# EAGLE library part MAX16998AAUA+T (library Artemis)
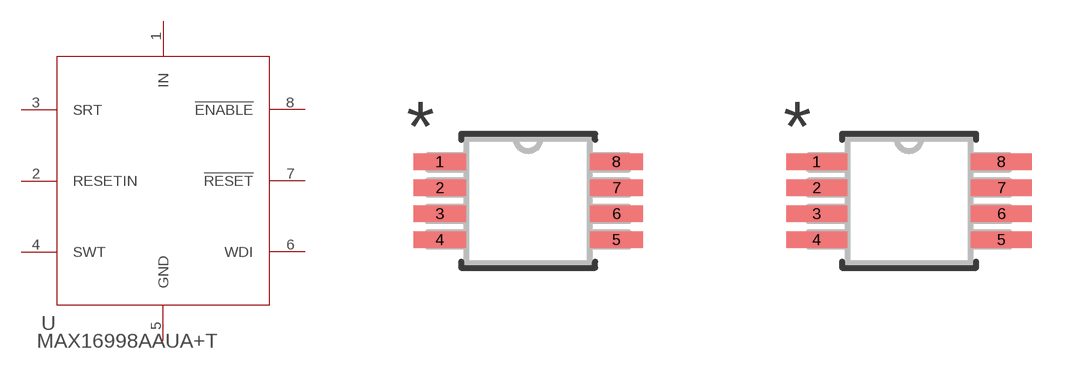
[diagram p10: symbol with the pads of 21-0036K_MXM; footprints 21-0036K_MXM, 21-0036K_MXM-M]

Designator prefix U

## MAX16998AAUA+T (BUILT_BY: EMA_UL_Team; MANUFACTURER_PART_NUMBER: MAX16998AAUA+T; REVISION: 2; SOURCELIBRARY: Maxim_2014-04-30_1; VENDOR: Maxim Integrated Products)  [21-0036K_MXM]
1  IN  in
2  RESETIN
3  SRT
4  SWT
5  GND  pwr
6  WDI
7  !RESET  pas
8  !ENABLE

## MAX16998AAUA+T21-0036K_MXM-M (BUILT_BY: EMA_UL_Team; MANUFACTURER_PART_NUMBER: MAX16998AAUA+T; REVISION: 2; SOURCELIBRARY: Maxim_2014-04-30_1; VENDOR: Maxim Integrated Products)  [21-0036K_MXM-M]
Pads as for 21-0036K_MXM

## MAX16998AAUA+T21-0036K_MXM-L (BUILT_BY: EMA_UL_Team; MANUFACTURER_PART_NUMBER: MAX16998AAUA+T; REVISION: 2; SOURCELIBRARY: Maxim_2014-04-30_1; VENDOR: Maxim Integrated Products)  [21-0036K_MXM-L]
Pads as for 21-0036K_MXM

## Footprint 21-0036K_MXM (pad centres in mm)
smd 1.321 x 0.406: 1 -2.21,0.975; 2 -2.21,0.325; 3 -2.21,-0.325; 4 -2.21,-0.975; 5 2.21,-0.975; 6 2.21,-0.325; 7 2.21,0.325; 8 2.21,0.975

## Footprint 21-0036K_MXM-M (pad centres in mm)
smd 1.524 x 0.406: 1 -2.311,0.975; 2 -2.311,0.325; 3 -2.311,-0.325; 4 -2.311,-0.975; 5 2.311,-0.975; 6 2.311,-0.325; 7 2.311,0.325; 8 2.311,0.975

## Footprint 21-0036K_MXM-L (pad centres in mm)
smd 1.067 x 0.356: 1 -2.134,0.975; 2 -2.134,0.325; 3 -2.134,-0.325; 4 -2.134,-0.975; 5 2.134,-0.975; 6 2.134,-0.325; 7 2.134,0.325; 8 2.134,0.975